# EAGLE library part PIC24FVXXKA301 (library microchip2)
PIC24FVXXKA301 2.0-5.5V 20 pin
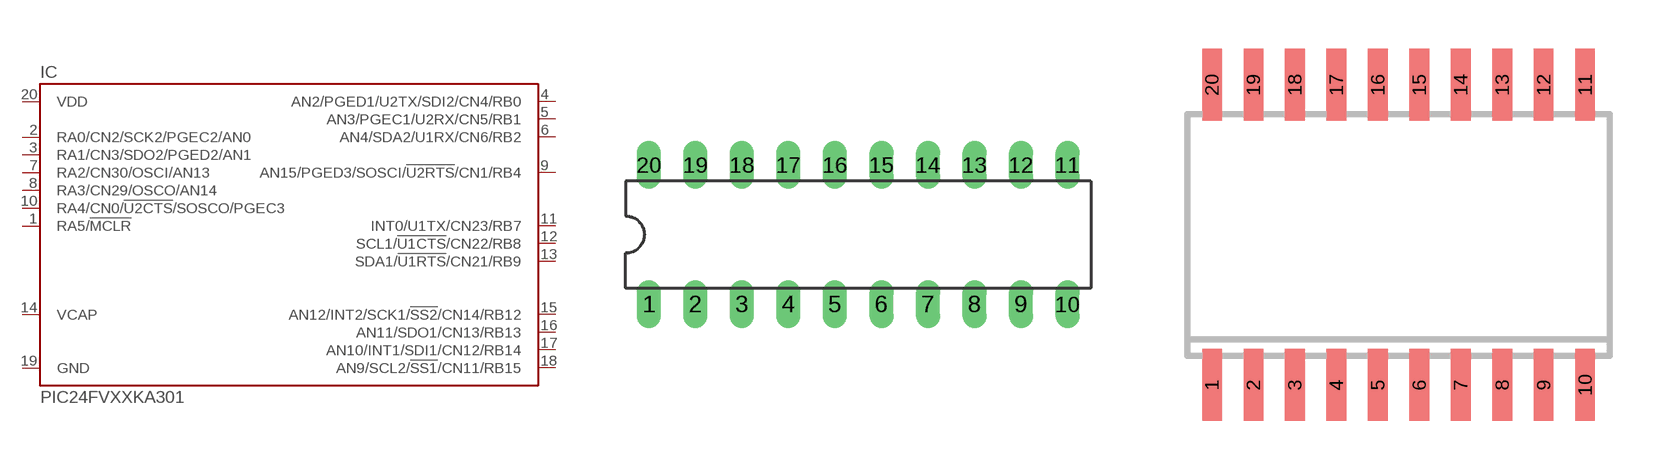
[diagram p166: symbol with the pads of DIL20; footprints DIL20, SO20W]

Designator prefix IC

## PIC24FVXXKA301-P  [DIL20]
1  RA5/!MCLR
2  RA0/CN2/SCK2/PGEC2/AN0
3  RA1/CN3/SDO2/PGED2/AN1
4  AN2/PGED1/U2TX/SDI2/CN4/RB0
5  AN3/PGEC1/U2RX/CN5/RB1
6  AN4/SDA2/U1RX/CN6/RB2
7  RA2/CN30/OSCI/AN13
8  RA3/CN29/OSCO/AN14
9  AN15/PGED3/SOSCI/!U2RTS!/CN1/RB4
10  RA4/CN0/!U2CTS!/SOSCO/PGEC3
11  INT0/U1TX/CN23/RB7
12  SCL1/!U1CTS!/CN22/RB8
13  SDA1/!U1RTS!/CN21/RB9
14  VCAP  pas
15  AN12/INT2/SCK1/!SS2!/CN14/RB12
16  AN11/SDO1/CN13/RB13
17  AN10/INT1/SDI1/CN12/RB14
18  AN9/SCL2/!SS1!/CN11/RB15
19  GND  pwr
20  VDD  pwr

## PIC24FVXXKA301-SO  [SO20W]
Pads as for DIL20

## PIC24FVXXKA301-SS  [SSOP20]
Pads as for DIL20

## Footprint DIL20 (pad centres in mm)
Dual In Line Package
drill 0.813 long: 1 -11.43,-3.81; 2 -8.89,-3.81; 3 -6.35,-3.81; 4 -3.81,-3.81; 5 -1.27,-3.81; 6 1.27,-3.81; 7 3.81,-3.81; 8 6.35,-3.81; 9 8.89,-3.81; 10 11.43,-3.81; 11 11.43,3.81; 12 8.89,3.81; 13 6.35,3.81; 14 3.81,3.81; 15 1.27,3.81; 16 -1.27,3.81; 17 -3.81,3.81; 18 -6.35,3.81; 19 -8.89,3.81; 20 -11.43,3.81

## Footprint SO20W (pad centres in mm)
SMALL OUTLINE INTEGRATED CIRCUIT wide body 7.5 mm/JEDEC MS-013AC
smd 0.6 x 2.2: 1 -5.715,-4.6; 2 -4.445,-4.6; 3 -3.175,-4.6; 4 -1.905,-4.6; 5 -0.635,-4.6; 6 0.635,-4.6; 7 1.905,-4.6; 8 3.175,-4.6; 9 4.445,-4.6; 10 5.715,-4.6; 11 5.715,4.6; 12 4.445,4.6; 13 3.175,4.6; 14 1.905,4.6; 15 0.635,4.6; 16 -0.635,4.6; 17 -1.905,4.6; 18 -3.175,4.6; 19 -4.445,4.6; 20 -5.715,4.6

## Footprint SSOP20 (pad centres in mm)
Shrink Small Outline Package package type SS
smd 0.4 x 1.5: 1 -2.925,-3.625; 2 -2.275,-3.625; 3 -1.625,-3.625; 4 -0.975,-3.625; 5 -0.325,-3.625; 6 0.325,-3.625; 7 0.975,-3.625; 8 1.625,-3.625; 9 2.275,-3.625; 10 2.925,-3.625; 11 2.925,3.625; 12 2.275,3.625; 13 1.625,3.625; 14 0.975,3.625; 15 0.325,3.625; 16 -0.325,3.625; 17 -0.975,3.625; 18 -1.625,3.625; 19 -2.275,3.625; 20 -2.925,3.625